# Altium footprint library SAMTEC_ADF6-60-X-X-4-2-FR.PcbLib: 1 footprints
Each footprint in its own frame and in the unit in brackets; x right, y up, seen from the top. Pads: shape width x height; smd on the part's side, far side on the other; paste and mask are expansions set on the pad; w line width, h text height; cw(c..) or ccw(c..) is an arc to the next point about the centre after c.
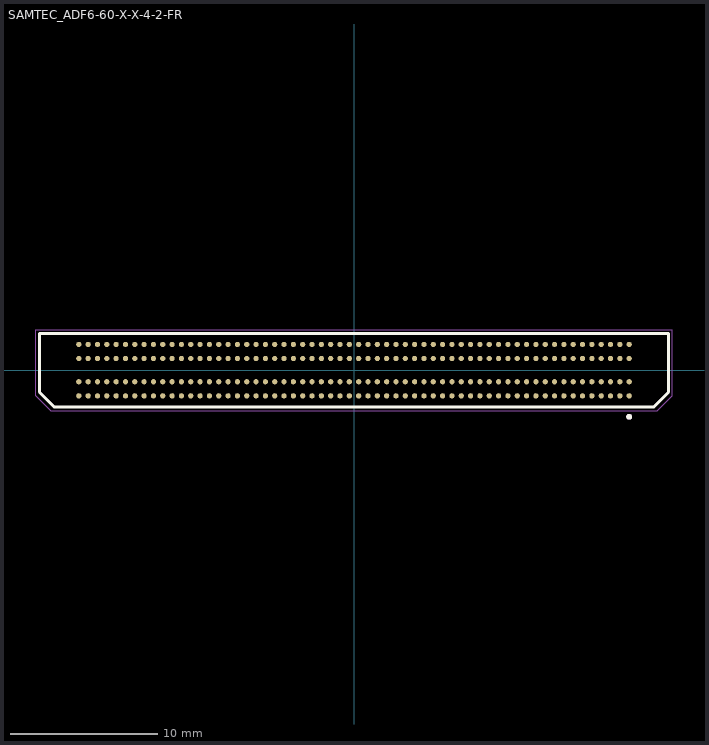
[diagram p0: the footprint, top view; thin cyan lines are the x and y axes]

## SAMTEC_ADF6-60-X-X-4-2-FR [mm]
pads (240):
  round 0.356 smd: A01(18.732,-1.75) A02(18.098,-1.75) A03(17.462,-1.75) A04(16.828,-1.75) A05(16.192,-1.75) A06(15.557,-1.75) A07(14.922,-1.75) A08(14.287,-1.75) A09(13.652,-1.75) A10(13.018,-1.75) A11(12.383,-1.75) A12(11.747,-1.75) A13(11.112,-1.75) A14(10.477,-1.75) A15(9.842,-1.75) A16(9.207,-1.75) A17(8.572,-1.75) A18(7.938,-1.75) A19(7.302,-1.75) A20(6.667,-1.75) A21(6.032,-1.75) A22(5.397,-1.75) A23(4.763,-1.75) A24(4.127,-1.75) A25(3.492,-1.75) A26(2.857,-1.75) A27(2.222,-1.75) A28(1.587,-1.75) A29(0.953,-1.75) A30(0.318,-1.75) A31(-0.318,-1.75) A32(-0.953,-1.75) A33(-1.587,-1.75) A34(-2.222,-1.75) A35(-2.857,-1.75) A36(-3.492,-1.75) A37(-4.127,-1.75) A38(-4.763,-1.75) A39(-5.397,-1.75) A40(-6.032,-1.75) A41(-6.667,-1.75) A42(-7.302,-1.75) A43(-7.938,-1.75) A44(-8.572,-1.75) A45(-9.207,-1.75) A46(-9.842,-1.75) A47(-10.477,-1.75) A48(-11.112,-1.75) A49(-11.747,-1.75) A50(-12.383,-1.75) A51(-13.018,-1.75) A52(-13.652,-1.75) A53(-14.287,-1.75) A54(-14.922,-1.75) A55(-15.557,-1.75) A56(-16.192,-1.75) A57(-16.828,-1.75) A58(-17.462,-1.75) A59(-18.098,-1.75) A60(-18.732,-1.75) B01(18.732,-0.79) B02(18.098,-0.79) B03(17.462,-0.79) B04(16.828,-0.79) B05(16.192,-0.79) B06(15.557,-0.79) B07(14.922,-0.79) B08(14.287,-0.79) B09(13.652,-0.79) B10(13.018,-0.79) B11(12.383,-0.79) B12(11.747,-0.79) B13(11.112,-0.79) B14(10.477,-0.79) B15(9.842,-0.79) B16(9.207,-0.79) B17(8.572,-0.79) B18(7.938,-0.79) B19(7.302,-0.79) B20(6.667,-0.79) B21(6.032,-0.79) B22(5.397,-0.79) B23(4.763,-0.79) B24(4.127,-0.79) B25(3.492,-0.79) B26(2.857,-0.79) B27(2.222,-0.79) B28(1.587,-0.79) B29(0.953,-0.79) B30(0.318,-0.79) B31(-0.318,-0.79) B32(-0.953,-0.79) B33(-1.587,-0.79) B34(-2.222,-0.79) B35(-2.857,-0.79) B36(-3.492,-0.79) B37(-4.127,-0.79) B38(-4.763,-0.79) B39(-5.397,-0.79) B40(-6.032,-0.79) B41(-6.667,-0.79) B42(-7.302,-0.79) B43(-7.938,-0.79) B44(-8.572,-0.79) B45(-9.207,-0.79) B46(-9.842,-0.79) B47(-10.477,-0.79) B48(-11.112,-0.79) B49(-11.747,-0.79) B50(-12.383,-0.79) B51(-13.018,-0.79) B52(-13.652,-0.79) B53(-14.287,-0.79) B54(-14.922,-0.79) B55(-15.557,-0.79) B56(-16.192,-0.79) B57(-16.828,-0.79) B58(-17.462,-0.79) B59(-18.098,-0.79) B60(-18.732,-0.79) C01(18.732,0.79) C02(18.098,0.79) C03(17.462,0.79) C04(16.828,0.79) C05(16.192,0.79) C06(15.557,0.79) C07(14.922,0.79) C08(14.287,0.79) C09(13.652,0.79) C10(13.018,0.79) C11(12.383,0.79) C12(11.747,0.79) C13(11.112,0.79) C14(10.477,0.79) C15(9.842,0.79) C16(9.207,0.79) C17(8.572,0.79) C18(7.938,0.79) C19(7.302,0.79) C20(6.667,0.79) C21(6.032,0.79) C22(5.397,0.79) C23(4.763,0.79) C24(4.127,0.79) C25(3.492,0.79) C26(2.857,0.79) C27(2.222,0.79) C28(1.587,0.79) C29(0.953,0.79) C30(0.318,0.79) C31(-0.318,0.79) C32(-0.953,0.79) C33(-1.587,0.79) C34(-2.222,0.79) C35(-2.857,0.79) C36(-3.492,0.79) C37(-4.127,0.79) C38(-4.763,0.79) C39(-5.397,0.79) C40(-6.032,0.79) C41(-6.667,0.79) C42(-7.302,0.79) C43(-7.938,0.79) C44(-8.572,0.79) C45(-9.207,0.79) C46(-9.842,0.79) C47(-10.477,0.79) C48(-11.112,0.79) C49(-11.747,0.79) C50(-12.383,0.79) C51(-13.018,0.79) C52(-13.652,0.79) C53(-14.287,0.79) C54(-14.922,0.79) C55(-15.557,0.79) C56(-16.192,0.79) C57(-16.828,0.79) C58(-17.462,0.79) C59(-18.098,0.79) C60(-18.732,0.79) D01(18.732,1.75) D02(18.098,1.75) D03(17.462,1.75) D04(16.828,1.75) D05(16.192,1.75) D06(15.557,1.75) D07(14.922,1.75) D08(14.287,1.75) D09(13.652,1.75) D10(13.018,1.75) D11(12.383,1.75) D12(11.747,1.75) D13(11.112,1.75) D14(10.477,1.75) D15(9.842,1.75) D16(9.207,1.75) D17(8.572,1.75) D18(7.938,1.75) D19(7.302,1.75) D20(6.667,1.75) D21(6.032,1.75) D22(5.397,1.75) D23(4.763,1.75) D24(4.127,1.75) D25(3.492,1.75) D26(2.857,1.75) D27(2.222,1.75) D28(1.587,1.75) D29(0.953,1.75) D30(0.318,1.75) D31(-0.318,1.75) D32(-0.953,1.75) D33(-1.587,1.75) D34(-2.222,1.75) D35(-2.857,1.75) D36(-3.492,1.75) D37(-4.127,1.75) D38(-4.763,1.75) D39(-5.397,1.75) D40(-6.032,1.75) D41(-6.667,1.75) D42(-7.302,1.75) D43(-7.938,1.75) D44(-8.572,1.75) D45(-9.207,1.75) D46(-9.842,1.75) D47(-10.477,1.75) D48(-11.112,1.75) D49(-11.747,1.75) D50(-12.383,1.75) D51(-13.018,1.75) D52(-13.652,1.75) D53(-14.287,1.75) D54(-14.922,1.75) D55(-15.557,1.75) D56(-16.192,1.75) D57(-16.828,1.75) D58(-17.462,1.75) D59(-18.098,1.75) D60(-18.732,1.75)
Top Overlay:
  circle w0.2: c18.732,-3.175 r0.1
  lines w0.2: -21.41,-1.5 -20.41,-2.5 20.41,-2.5 21.41,-1.5 21.41,2.5 -21.41,2.5 -21.41,-1.5
Mechanical 13:
  circle w0.2: c18.732,-3.175 r0.1
  lines w0.1: -21.41,-1.5 -20.41,-2.5 20.41,-2.5 21.41,-1.5 21.41,2.5 -21.41,2.5 -21.41,-1.5
Mechanical 15:
  lines w0.05: -21.66,-1.75 -20.66,-2.75 20.66,-2.75 21.66,-1.75 21.66,2.75 -21.66,2.75 -21.66,-1.75